# Altium schematic symbol library Q22FA12800120.SchLib: 1 symbol
Pins are listed as number, name and electrical type; pins without a type are passive.

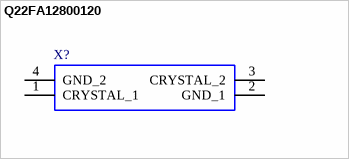
[diagram p0: symbol Q22FA12800120]

## Q22FA12800120
designator X?
SMD Crystal Resonators 24MHz +/-10ppm SMD-2016_4P RoHS; Manufacturer_Name: Seiko Instruments Inc.; Geometry.Height: 0.5mm; Manufacturer_Part_Number: Q22FA12800120; Mouser Part Number: *; Mouser Price/Stock: *; Arrow Part Number: *; Arrow Price/Stock: *; Mouser Testing Part Number: *; Mouser Testing Price/Stock: *; Datasheet Link: https://datasheet.lcsc.com/szlcsc/Seiko-Epson-Q22FA12800120_C255879.pdf
footprint Q22FA12800120
pins: 1 CRYSTAL_1, 2 GND_1, 3 CRYSTAL_2, 4 GND_2